# Altium schematic symbol library AM2LW-2415D-NZ.SchLib: 1 symbol
Pins are listed as number, name and electrical type; pins without a type are passive.

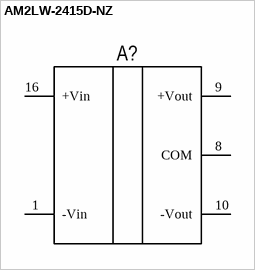
[diagram p0: symbol AM2LW-2415D-NZ]

## AM2LW-2415D-NZ
designator A?  (value not drawn)
pins: 1 -Vin (power), 8 COM (power), 9 +Vout (power), 10 -Vout (power), 16 +Vin (power)